# EAGLE library part MOLC-110-01-S-Q (library coxlab)
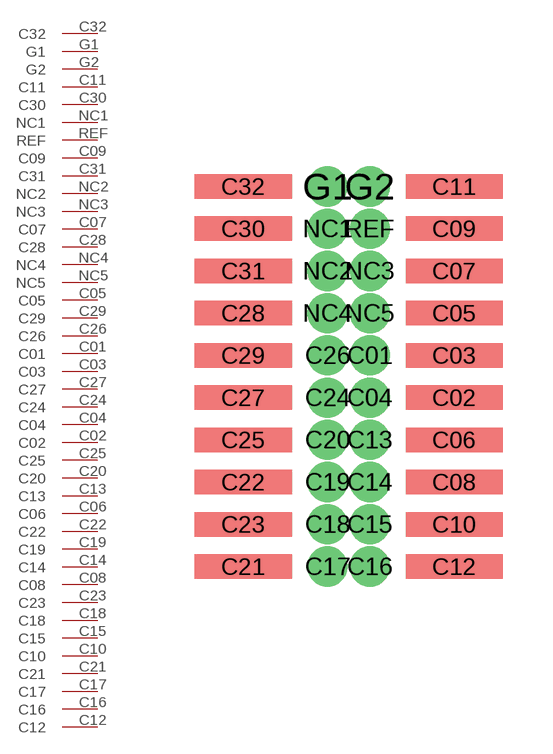
[diagram p0: symbol with the pads of MOLC-110-01-S-Q; footprint MOLC-110-01-S-Q]

Designator prefix -

## MOLC-110-01-S-QNEURO-NEXUS  [MOLC-110-01-S-Q]
C01  C01
C02  C02
C03  C03
C04  C04
C05  C05
C06  C06
C07  C07
C08  C08
C09  C09
C10  C10
C11  C11
C12  C12
C13  C13
C14  C14
C15  C15
C16  C16
C17  C17
C18  C18
C19  C19
C20  C20
C21  C21
C22  C22
C23  C23
C24  C24
C25  C25
C26  C26
C27  C27
C28  C28
C29  C29
C30  C30
C31  C31
C32  C32
G1  G1
G2  G2
NC1  NC1
NC2  NC2
NC3  NC3
NC4  NC4
NC5  NC5
REF  REF

## Footprint MOLC-110-01-S-Q (pad centres in mm)
drill 0.7 pad 1.067 round: C01 0.635,0.635; C04 0.635,-0.635; C13 0.635,-1.905; C14 0.635,-3.175; C15 0.635,-4.445; C16 0.635,-5.715; C17 -0.635,-5.715; C18 -0.635,-4.445; C19 -0.635,-3.175; C20 -0.635,-1.905; C24 -0.635,-0.635; C26 -0.635,0.635; G1 -0.635,5.715; G2 0.635,5.715; NC1 -0.635,4.445; NC2 -0.635,3.175; NC3 0.635,3.175; NC4 -0.635,1.905; NC5 0.635,1.905; REF 0.635,4.445
smd 2.921 x 0.737: C02 3.175,-0.635; C03 3.175,0.635; C05 3.175,1.905; C06 3.175,-1.905; C07 3.175,3.175; C08 3.175,-3.175; C09 3.175,4.445; C10 3.175,-4.445; C11 3.175,5.715; C12 3.175,-5.715; C21 -3.175,-5.715; C22 -3.175,-3.175; C23 -3.175,-4.445; C25 -3.175,-1.905; C27 -3.175,-0.635; C28 -3.175,1.905; C29 -3.175,0.635; C30 -3.175,4.445; C31 -3.175,3.175; C32 -3.175,5.715